# EAGLE library part B6B-PH-K-S (library lippa)
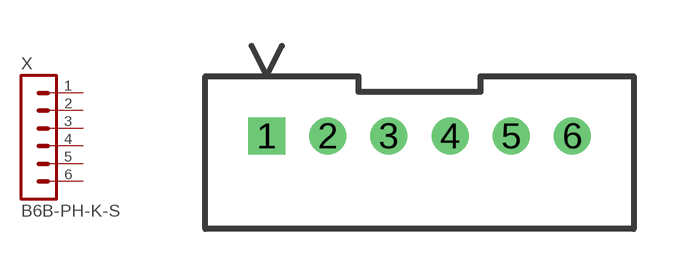
[diagram p5: symbol with the pads of B6B-PH-K-S; footprint B6B-PH-K-S]

Designator prefix X

## B6B-PH-K-S  [B6B-PH-K-S]
1  1  pas
2  2  pas
3  3  pas
4  4  pas
5  5  pas
6  6  pas

## Footprint B6B-PH-K-S (pad centres in mm)
drill 0.7 square: 1 -5,0.55
drill 0.7: 2 -3,0.55; 3 -1,0.55; 4 1,0.55; 5 3,0.55; 6 5,0.55